# Altium footprint library RCDQLY.PCBLIB: 149 footprints (part 4 of 10)
Each footprint in its own frame and in the unit in brackets; x right, y up, seen from the top. Pads: shape width x height; smd on the part's side, far side on the other; paste and mask are expansions set on the pad; w line width, h text height; cw(c..) or ccw(c..) is an arc to the next point about the centre after c.
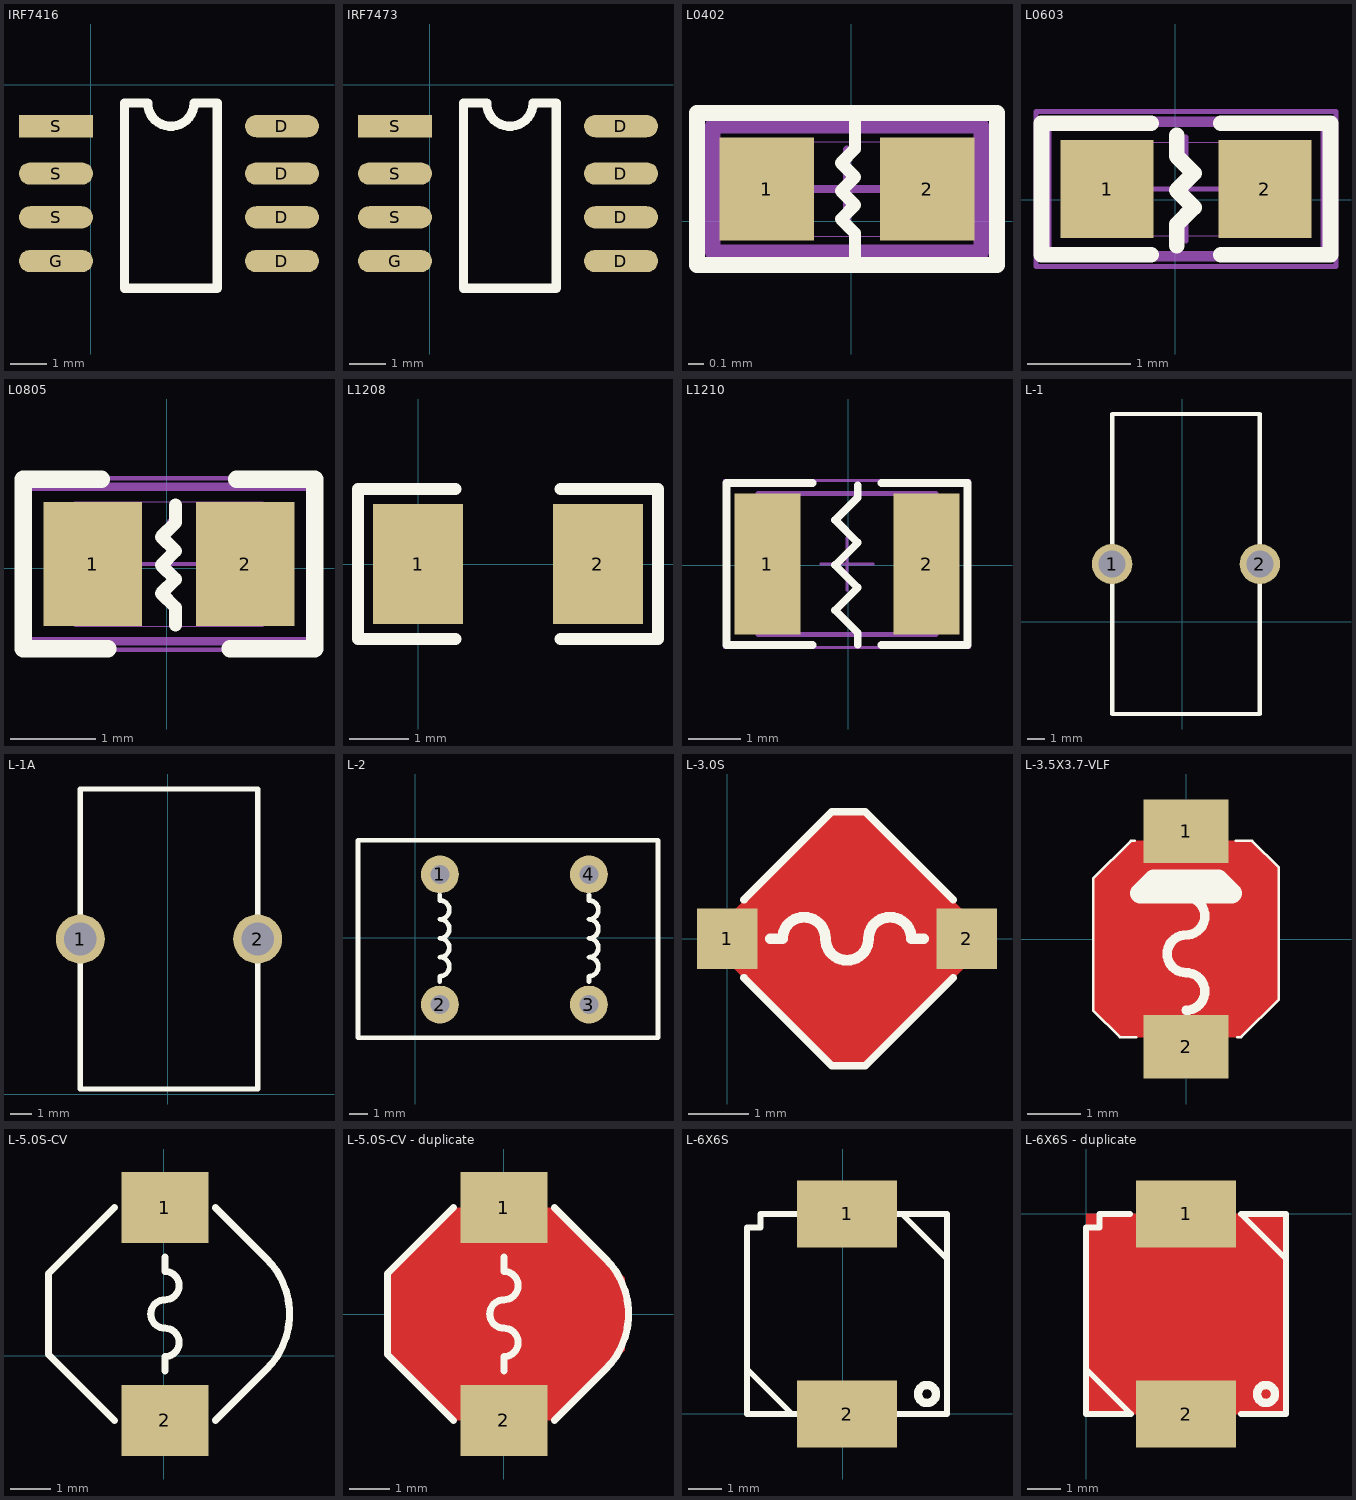
[diagram p3: the footprints below, top view; thin cyan lines are the x and y axes]

## IRF7416 [mil]
pads (8):
  oval 80x24 smd: D(206.41,-190.67) D(206.41,-143.43) D(206.41,-96.18) D(206.41,-45) G(-37.69,-190.67) S(-37.69,-143.43) S(-37.69,-96.18)
  rect 80x24 smd: S(-37.69,-45)
TopOverlay:
  lines w10: 36.39,-220.06 36.39,-20.06 61.39,-20.06 ccw(c86.39,-20.06) 111.39,-20.06 136.39,-20.06 136.39,-220.06 36.39,-220.06

## IRF7473 [mil]
pads (8):
  oval 80x24 smd: D(206.41,-190.67) D(206.41,-143.43) D(206.41,-96.18) D(206.41,-45) G(-37.69,-190.67) S(-37.69,-143.43) S(-37.69,-96.18)
  rect 80x24 smd: S(-37.69,-45)
TopOverlay:
  lines w10: 36.39,-220.06 136.39,-220.06 136.39,-20.06 111.39,-20.06 cw(c86.39,-20.06) 61.39,-20.06 36.39,-20.06 36.39,-220.06

## L0402 [mil]
pads (2):
  rect 23.62x25.59 smd: 1(-21,8) 2(19,8)
TopOverlay:
  lines w3: 1,-10 1,-3 -2.5,0.5 1,4 -2.5,7.5 1,11 -2.5,14.5 1,18 1,26
  lines w4: -38.4,-11 36.4,-11 36.4,27 -38.4,27 -38.4,-11
Mechanical15:
  lines w3.94: -34.46,-7.75 -34.46,23.75 32.46,23.75 32.46,-7.75 -34.46,-7.75
  text "1" at -4.23,-0.86 h14.76
Mechanical16:
  lines w0.04: -22.65,-3.81 -22.65,19.81 20.65,19.81 20.65,-3.81 -22.65,-3.81
  lines w1.97: -10.84,8 8.84,8 ; -1,-1.84 -1,17.84 ; -38.4,-11.69 -38.4,27.68 36.4,27.68 36.4,-11.69 -38.4,-11.69
3D body: height 13.78, standoff 0, extent -19.68,-2 19.68,17.68

## L0603 [mil]
pads (2):
  rect 35.43x37.4 smd: 1(-26,4) 2(34,4)
TopOverlay:
  lines w6: -9.25,-21 -51,-21 -51,29 -9.25,29 ; 0.5,-17.5 0.5,-9.5 7,-3 0.5,3.5 7,10 0.5,16.5 0.5,24.5 ; 17.25,-21 59,-21 59,29 17.25,29
Mechanical15:
  lines w3.94: -49.15,-21.59 57.15,-21.59 57.15,29.59 -49.15,29.59 -49.15,-21.59
  text "1" at -0.96,-9.58 h22.64
Mechanical16:
  lines w0.04: -29.46,-13.72 37.46,-13.72 37.46,21.72 -29.46,21.72 -29.46,-13.72
  lines w1.97: -15.69,4 23.68,4 ; 4,-15.69 4,23.68 ; -53.09,-25.53 61.09,-25.53 61.09,33.53 -53.09,33.53 -53.09,-25.53
3D body: height 11.89, standoff 0, extent -27.5,-11.75 35.5,19.75

## L0805 [mil]
pads (2):
  rect 45.28x57.09 smd: 1(-34,2) 2(36,2)
TopOverlay:
  lines w6: 4,-26 4,-18 -2.5,-11.5 4,-5 -2.5,1.5 4,8 -2.5,14.5 4,21 4,29
  lines w8: -30,41 -66,41 -66,-37 -27,-37 ; 29,-37 68,-37 68,41 32,41
Mechanical15:
  lines w3.94: -63.96,-33.43 65.96,-33.43 65.96,37.43 -63.96,37.43 -63.96,-33.43
  text "1" at -5.47,-15.71 h29.53
Mechanical16:
  lines w0.04: -42.31,-26.54 44.31,-26.54 44.31,30.54 -42.31,30.54 -42.31,-26.54
  lines w1.97: -18.68,2 20.68,2 ; 1,-17.68 1,21.68 ; -67.9,-37.37 69.9,-37.37 69.9,41.37 -67.9,41.37 -67.9,-37.37

## L1208 [mil]
pads (2):
  rect 60x80 smd: 1(0,0) 2(120,0)
TopOverlay:
  lines w8: 25,-50 -40,-50 -40,50 25,50 ; 95,-50 160,-50 160,50 95,50

## L1210 [mil]
pads (2):
  rect 50x106.3 smd: 1(-61,1) 2(59,1)
TopOverlay:
  lines w6: -27,-60 -92,-60 -92,62 -27,62 ; 7.11,-59.89 7.11,-50.89 -9.89,-33.89 7.11,-16.89 -9.89,0.11 7.11,17.11 -9.89,34.11 7.11,51.11 7.11,60.11 ; 25,-60 90,-60 90,62 25,62
Mechanical15:
  lines w3.94: -67.93,-52.15 -67.93,54.15 65.93,54.15 65.93,-52.15 -67.93,-52.15
  text "1" at -7.47,-16.71 h29.53
Mechanical16:
  lines w0.04: -67.93,-52.15 -67.93,54.15 65.93,54.15 65.93,-52.15 -67.93,-52.15
  lines w1.97: -20.68,1 18.68,1 ; -1,-18.68 -1,20.68 ; -93.52,-61.99 -93.52,63.99 91.52,63.99 91.52,-61.99 -93.52,-61.99

## L-1 [mil]
pads (2):
  round 90 hole 60: 1(-157,129) 2(173,129)
TopOverlay:
  lines w10: -157,-206 -157,464 173,464 173,-206 -157,-206

## L-1A [mil]
pads (2):
  round 90 hole 60: 1(-160,285) 2(165,285)
TopOverlay:
  lines w10: -160,10 -160,285 -160,560 165,560 165,10 -160,10

## L-2 [mil]
pads (4):
  round 80 hole 40: 1(52,134) 2(52,-141) 3(367,-141) 4(367,134)
TopOverlay:
  lines w10: -121,205 -121,-211 513,-211 513,205 ; -121,206 513,206 ; 52,-93 52,-81 ccw(c52,-61) 52,-41 ccw(c52,-21) 52,-1 ccw(c52,19) 52,39 ccw(c52,59) 52,79 52,91 ; 367,-93 367,-81 ccw(c367,-61) 367,-41 ccw(c367,-21) 367,-1 ccw(c367,19) 367,39 ccw(c367,59) 367,79 367,91

## L-3.0S [mm]
height 1.5
pads (2):
  rect 1x1 smd: 1(0,0) 2(3.962,0)
TopLayer:
  pour cut-out: 1.702,2.057 1.702,2.083 2.286,2.083 4.089,0.279 4.14,0.279 4.14,-0.254 2.311,-2.083 1.753,-2.083 1.727,-2.108 -0.076,-0.305 -0.102,-0.305 -0.102,0.254
TopOverlay:
  lines w0.127: 0.276,-0.645 1.732,-2.1 2.282,-2.1 3.737,-0.645 ; 3.737,0.645 2.282,2.1 1.732,2.1 0.276,0.645 ; 0.276,0.645 0.276,0.645
  lines w0.178: 0.711,0 0.914,0 cw(c1.27,0) 1.27,0.356 cw(c1.27,0) 1.626,0 ccw(c1.981,0) 1.981,-0.356 ccw(c1.981,0) 2.337,0 cw(c2.692,0) 2.692,0.356 cw(c2.692,0) 3.048,0 3.251,0

## L-3.5X3.7-VLF [mm]
pads (2):
  rect 1.6x1.2 smd: 1(0,2.032) 2(0,-2.032)
TopLayer:
  pour cut-out: -1.041,1.854 1.245,1.854 1.753,1.346 1.753,-1.143 1.041,-1.854 -1.245,-1.854 -1.753,-1.346 -1.753,1.143
TopOverlay:
  lines w0.051: -0.965,1.854 -1.041,1.854 -1.753,1.143 -1.753,-1.346 -1.245,-1.854 -0.94,-1.854 ; 0.94,1.854 1.245,1.854 1.753,1.346 1.753,-1.143 1.041,-1.854 0.965,-1.854
  lines w0.178: 0,-1.346 ccw(c0,-0.991) 0.356,-0.991 ccw(c0,-0.991) 0,-0.635 cw(c0,-0.279) -0.356,-0.279 cw(c0,-0.279) 0,0.076 ccw(c0,0.432) 0.356,0.432 ccw(c0,0.432) 0,0.787 ; 0,0.965 0,1.219
  lines w0.381: -0.864,0.864 -0.61,1.118 0.61,1.118 0.864,0.864 -0.864,0.864

## L-5.0S-CV [mil]
pads (2):
  rect 86x70 smd: 1(1,146) 2(1,-64)
TopOverlay:
  lines w7: -48.95,-64.05 -114,1 -114,81 -48.95,146.05 ; 1,-15 1,-1 ccw(c1,13) 15,13 ccw(c1,13) 1,27 cw(c1,41) -13,41 cw(c1,41) 1,55 ccw(c1,69) 15,69 ccw(c1,69) 1,83 1,97 ; 51,-63.86 100.46,-14.39 ccw(c46.97,41) 100.46,96.39 51,145.86

## L-5.0S-CV - duplicate [mil]
pads (2):
  rect 86x70 smd: 1(0,105) 2(0,-105)
TopLayer:
  pour cut-out: -115,40 -49.95,105.05 49.81,105.05 119,35.86 119,-35.86 49.81,-105.05 -49.95,-105.05 -115,-40
TopOverlay:
  lines w7: -49.95,-105.05 -115,-40 -115,40 -49.95,105.05 ; 0,-56 0,-42 ccw(c0,-28) 14,-28 ccw(c0,-28) 0,-14 cw(c0,0) -14,0 cw(c0,0) 0,14 ccw(c0,28) 14,28 ccw(c0,28) 0,42 0,56 ; 50,-104.86 99.46,-55.39 ccw(c45.97,0) 99.46,55.39 50,104.86

## L-6X6S [mm]
pads (2):
  rect 3x2 smd: 1(0.13,5.994) 2(0.13,-0.006)
TopOverlay:
  circle w0.254: c2.53,0.594 r0.27
  lines w0.178: -2.87,1.344 -1.52,-0.006 ; 1.78,5.994 3.13,4.644 ; -2.87,-0.006 3.13,-0.006 3.13,5.994 -2.47,5.994 -2.47,5.594 -2.87,5.594 -2.87,-0.006

## L-6X6S - duplicate [mm]
pads (2):
  rect 3x2 smd: 1(3,0) 2(3,-6)
TopLayer:
  pour cut-out: 0,-6 0,0 6,0 6,-6
TopOverlay:
  circle w0.254: c5.4,-5.4 r0.27
  lines w0.178: 0,-4.65 1.35,-6 0,-6 0,-0.4 0.4,-0.4 0.4,0 1.321,0 ; 4.65,-6 6,-6 6,0 4.65,0 6,-1.35